# EAGLE library part STM8S001J3 (library stm8s001j3)
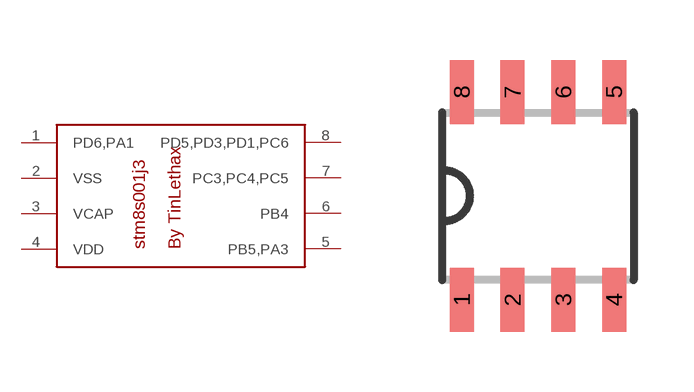
[diagram p0: symbol with the pads of SOP8; footprint SOP8]

Designator prefix -

## STM8S001J3  [SOP8]
1  PD6,PA1
2  VSS
3  VCAP
4  VDD
5  PB5,PA3
6  PB4
7  PC3,PC4,PC5
8  PD5,PD3,PD1,PC6

## Footprint SOP8 (pad centres in mm)
SOP8 Source: http://www.rohm.com/products/databook/motor/pdf/bd623x_series-e.pdf
smd 0.6 x 1.6: 1 -1.905,-2.6; 2 -0.635,-2.6; 3 0.635,-2.6; 4 1.905,-2.6; 5 1.905,2.6; 6 0.635,2.6; 7 -0.635,2.6; 8 -1.905,2.6